# Altium schematic symbol library Parts.SchLib: 2 symbols
Pins are listed as number, name and electrical type; pins without a type are passive.

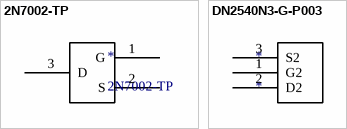
[diagram p0: symbols 2N7002-TP to DN2540N3-G-P003]

## 2N7002-TP
designator *
pins: 1 G, 2 S, 3 D

## DN2540N3-G-P003
designator *
footprint TO-92
pins: 1 G2, 2 D2, 3 S2